# Altium footprint library EF3L90CG400B.PcbLib: 1 footprints
Each footprint in its own frame and in the unit in brackets; x right, y up, seen from the top. Pads: shape width x height; smd on the part's side, far side on the other; paste and mask are expansions set on the pad; w line width, h text height; cw(c..) or ccw(c..) is an arc to the next point about the centre after c.
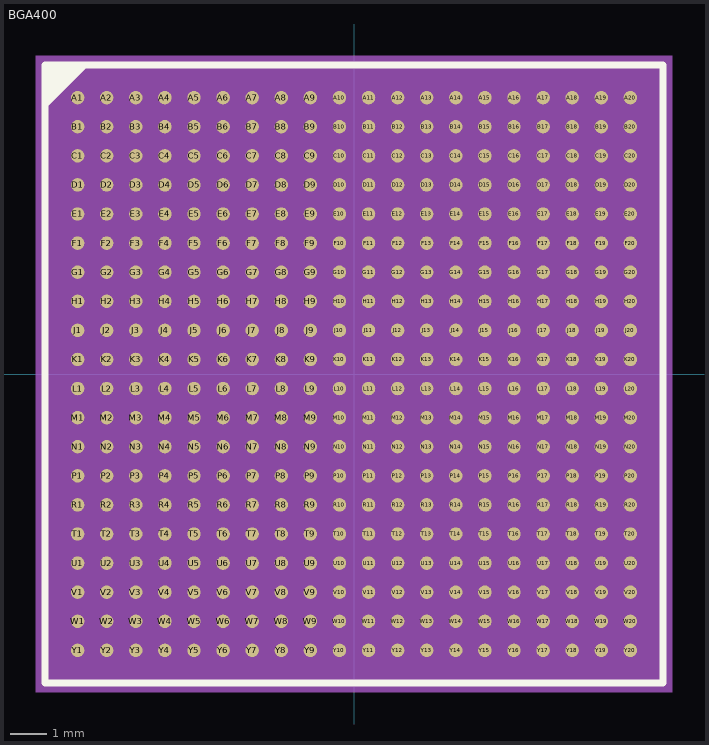
[diagram p0: the footprint, top view; thin cyan lines are the x and y axes]

## BGA400 [mm] "BGA400C80P20X20"
pads (400):
  round 0.37 smd: A1(-7.6,7.6) A2(-6.8,7.6) A3(-6,7.6) A4(-5.2,7.6) A5(-4.4,7.6) A6(-3.6,7.6) A7(-2.8,7.6) A8(-2,7.6) A9(-1.2,7.6) A10(-0.4,7.6) A11(0.4,7.6) A12(1.2,7.6) A13(2,7.6) A14(2.8,7.6) A15(3.6,7.6) A16(4.4,7.6) A17(5.2,7.6) A18(6,7.6) A19(6.8,7.6) A20(7.6,7.6) B1(-7.6,6.8) B2(-6.8,6.8) B3(-6,6.8) B4(-5.2,6.8) B5(-4.4,6.8) B6(-3.6,6.8) B7(-2.8,6.8) B8(-2,6.8) B9(-1.2,6.8) B10(-0.4,6.8) B11(0.4,6.8) B12(1.2,6.8) B13(2,6.8) B14(2.8,6.8) B15(3.6,6.8) B16(4.4,6.8) B17(5.2,6.8) B18(6,6.8) B19(6.8,6.8) B20(7.6,6.8) C1(-7.6,6) C2(-6.8,6) C3(-6,6) C4(-5.2,6) C5(-4.4,6) C6(-3.6,6) C7(-2.8,6) C8(-2,6) C9(-1.2,6) C10(-0.4,6) C11(0.4,6) C12(1.2,6) C13(2,6) C14(2.8,6) C15(3.6,6) C16(4.4,6) C17(5.2,6) C18(6,6) C19(6.8,6) C20(7.6,6) D1(-7.6,5.2) D2(-6.8,5.2) D3(-6,5.2) D4(-5.2,5.2) D5(-4.4,5.2) D6(-3.6,5.2) D7(-2.8,5.2) D8(-2,5.2) D9(-1.2,5.2) D10(-0.4,5.2) D11(0.4,5.2) D12(1.2,5.2) D13(2,5.2) D14(2.8,5.2) D15(3.6,5.2) D16(4.4,5.2) D17(5.2,5.2) D18(6,5.2) D19(6.8,5.2) D20(7.6,5.2) E1(-7.6,4.4) E2(-6.8,4.4) E3(-6,4.4) E4(-5.2,4.4) E5(-4.4,4.4) E6(-3.6,4.4) E7(-2.8,4.4) E8(-2,4.4) E9(-1.2,4.4) E10(-0.4,4.4) E11(0.4,4.4) E12(1.2,4.4) E13(2,4.4) E14(2.8,4.4) E15(3.6,4.4) E16(4.4,4.4) E17(5.2,4.4) E18(6,4.4) E19(6.8,4.4) E20(7.6,4.4) F1(-7.6,3.6) F2(-6.8,3.6) F3(-6,3.6) F4(-5.2,3.6) F5(-4.4,3.6) F6(-3.6,3.6) F7(-2.8,3.6) F8(-2,3.6) F9(-1.2,3.6) F10(-0.4,3.6) F11(0.4,3.6) F12(1.2,3.6) F13(2,3.6) F14(2.8,3.6) F15(3.6,3.6) F16(4.4,3.6) F17(5.2,3.6) F18(6,3.6) F19(6.8,3.6) F20(7.6,3.6) G1(-7.6,2.8) G2(-6.8,2.8) G3(-6,2.8) G4(-5.2,2.8) G5(-4.4,2.8) G6(-3.6,2.8) G7(-2.8,2.8) G8(-2,2.8) G9(-1.2,2.8) G10(-0.4,2.8) G11(0.4,2.8) G12(1.2,2.8) G13(2,2.8) G14(2.8,2.8) G15(3.6,2.8) G16(4.4,2.8) G17(5.2,2.8) G18(6,2.8) G19(6.8,2.8) G20(7.6,2.8) H1(-7.6,2) H2(-6.8,2) H3(-6,2) H4(-5.2,2) H5(-4.4,2) H6(-3.6,2) H7(-2.8,2) H8(-2,2) H9(-1.2,2) H10(-0.4,2) H11(0.4,2) H12(1.2,2) H13(2,2) H14(2.8,2) H15(3.6,2) H16(4.4,2) H17(5.2,2) H18(6,2) H19(6.8,2) H20(7.6,2) J1(-7.6,1.2) J2(-6.8,1.2) J3(-6,1.2) J4(-5.2,1.2) J5(-4.4,1.2) J6(-3.6,1.2) J7(-2.8,1.2) J8(-2,1.2) J9(-1.2,1.2) J10(-0.4,1.2) J11(0.4,1.2) J12(1.2,1.2) J13(2,1.2) J14(2.8,1.2) J15(3.6,1.2) J16(4.4,1.2) J17(5.2,1.2) J18(6,1.2) J19(6.8,1.2) J20(7.6,1.2) K1(-7.6,0.4) K2(-6.8,0.4) K3(-6,0.4) K4(-5.2,0.4) K5(-4.4,0.4) K6(-3.6,0.4) K7(-2.8,0.4) K8(-2,0.4) K9(-1.2,0.4) K10(-0.4,0.4) K11(0.4,0.4) K12(1.2,0.4) K13(2,0.4) K14(2.8,0.4) K15(3.6,0.4) K16(4.4,0.4) K17(5.2,0.4) K18(6,0.4) K19(6.8,0.4) K20(7.6,0.4) L1(-7.6,-0.4) L2(-6.8,-0.4) L3(-6,-0.4) L4(-5.2,-0.4) L5(-4.4,-0.4) L6(-3.6,-0.4) L7(-2.8,-0.4) L8(-2,-0.4) L9(-1.2,-0.4) L10(-0.4,-0.4) L11(0.4,-0.4) L12(1.2,-0.4) L13(2,-0.4) L14(2.8,-0.4) L15(3.6,-0.4) L16(4.4,-0.4) L17(5.2,-0.4) L18(6,-0.4) L19(6.8,-0.4) L20(7.6,-0.4) M1(-7.6,-1.2) M2(-6.8,-1.2) M3(-6,-1.2) M4(-5.2,-1.2) M5(-4.4,-1.2) M6(-3.6,-1.2) M7(-2.8,-1.2) M8(-2,-1.2) M9(-1.2,-1.2) M10(-0.4,-1.2) M11(0.4,-1.2) M12(1.2,-1.2) M13(2,-1.2) M14(2.8,-1.2) M15(3.6,-1.2) M16(4.4,-1.2) M17(5.2,-1.2) M18(6,-1.2) M19(6.8,-1.2) M20(7.6,-1.2) N1(-7.6,-2) N2(-6.8,-2) N3(-6,-2) N4(-5.2,-2) N5(-4.4,-2) N6(-3.6,-2) N7(-2.8,-2) N8(-2,-2) N9(-1.2,-2) N10(-0.4,-2) N11(0.4,-2) N12(1.2,-2) N13(2,-2) N14(2.8,-2) N15(3.6,-2) N16(4.4,-2) N17(5.2,-2) N18(6,-2) N19(6.8,-2) N20(7.6,-2) P1(-7.6,-2.8) P2(-6.8,-2.8) P3(-6,-2.8) P4(-5.2,-2.8) P5(-4.4,-2.8) P6(-3.6,-2.8) P7(-2.8,-2.8) P8(-2,-2.8) P9(-1.2,-2.8) P10(-0.4,-2.8) P11(0.4,-2.8) P12(1.2,-2.8) P13(2,-2.8) P14(2.8,-2.8) P15(3.6,-2.8) P16(4.4,-2.8) P17(5.2,-2.8) P18(6,-2.8) P19(6.8,-2.8) P20(7.6,-2.8) R1(-7.6,-3.6) R2(-6.8,-3.6) R3(-6,-3.6) R4(-5.2,-3.6) R5(-4.4,-3.6) R6(-3.6,-3.6) R7(-2.8,-3.6) R8(-2,-3.6) R9(-1.2,-3.6) R10(-0.4,-3.6) R11(0.4,-3.6) R12(1.2,-3.6) R13(2,-3.6) R14(2.8,-3.6) R15(3.6,-3.6) R16(4.4,-3.6) R17(5.2,-3.6) R18(6,-3.6) R19(6.8,-3.6) R20(7.6,-3.6) T1(-7.6,-4.4) T2(-6.8,-4.4) T3(-6,-4.4) T4(-5.2,-4.4) T5(-4.4,-4.4) T6(-3.6,-4.4) T7(-2.8,-4.4) T8(-2,-4.4) T9(-1.2,-4.4) T10(-0.4,-4.4) T11(0.4,-4.4) T12(1.2,-4.4) T13(2,-4.4) T14(2.8,-4.4) T15(3.6,-4.4) T16(4.4,-4.4) T17(5.2,-4.4) T18(6,-4.4) T19(6.8,-4.4) T20(7.6,-4.4) U1(-7.6,-5.2) U2(-6.8,-5.2) U3(-6,-5.2) U4(-5.2,-5.2) U5(-4.4,-5.2) U6(-3.6,-5.2) U7(-2.8,-5.2) U8(-2,-5.2) U9(-1.2,-5.2) U10(-0.4,-5.2) U11(0.4,-5.2) U12(1.2,-5.2) U13(2,-5.2) U14(2.8,-5.2) U15(3.6,-5.2) U16(4.4,-5.2) U17(5.2,-5.2) U18(6,-5.2) U19(6.8,-5.2) U20(7.6,-5.2) V1(-7.6,-6) V2(-6.8,-6) V3(-6,-6) V4(-5.2,-6) V5(-4.4,-6) V6(-3.6,-6) V7(-2.8,-6) V8(-2,-6) V9(-1.2,-6) V10(-0.4,-6) V11(0.4,-6) V12(1.2,-6) V13(2,-6) V14(2.8,-6) V15(3.6,-6) V16(4.4,-6) V17(5.2,-6) V18(6,-6) V19(6.8,-6) V20(7.6,-6) W1(-7.6,-6.8) W2(-6.8,-6.8) W3(-6,-6.8) W4(-5.2,-6.8) W5(-4.4,-6.8) W6(-3.6,-6.8) W7(-2.8,-6.8) W8(-2,-6.8) W9(-1.2,-6.8) W10(-0.4,-6.8) W11(0.4,-6.8) W12(1.2,-6.8) W13(2,-6.8) W14(2.8,-6.8) W15(3.6,-6.8) W16(4.4,-6.8) W17(5.2,-6.8) W18(6,-6.8) W19(6.8,-6.8) W20(7.6,-6.8) Y1(-7.6,-7.6) Y2(-6.8,-7.6) Y3(-6,-7.6) Y4(-5.2,-7.6) Y5(-4.4,-7.6) Y6(-3.6,-7.6) Y7(-2.8,-7.6) Y8(-2,-7.6) Y9(-1.2,-7.6) Y10(-0.4,-7.6) Y11(0.4,-7.6) Y12(1.2,-7.6) Y13(2,-7.6) Y14(2.8,-7.6) Y15(3.6,-7.6) Y16(4.4,-7.6) Y17(5.2,-7.6) Y18(6,-7.6) Y19(6.8,-7.6) Y20(7.6,-7.6)
Top Overlay:
  dashed: -8.5,8.5 -7.286,8.5 -8.5,7.286
  lines w0.2: -8.5,-8.5 8.5,-8.5 8.5,8.5 -8.5,8.5 -8.5,-8.5
  text ".Designator" at -7.9,10.03 h0.79
Top Courtyard:
  dashed: -8.75,-8.75 -8.75,8.75 8.75,8.75 8.75,-8.75
Mechanical 13:
  text "C20" at 7.6,6.762 h0.64
  text "F19" at 6.8,4.362 h0.64
  text "M8" at -2,-0.692 h0.64
  text "L9" at -1.2,0.108 h0.64
  text "K9" at -1.2,0.908 h0.64
  text "K8" at -2,0.908 h0.64
  text "J8" at -2,1.708 h0.64
  text "J7" at -2.8,1.708 h0.64
  text "H12" at 1.2,2.762 h0.64
  text "H11" at 0.4,2.762 h0.64
  text "J11" at 0.4,1.962 h0.64
  text "H10" at -0.4,2.762 h0.64
  text "J10" at -0.4,1.962 h0.64
  text "H9" at -1.2,2.508 h0.64
  text "J9" at -1.2,1.708 h0.64
  text "H8" at -2,2.508 h0.64
  text "N13" at 2,-1.238 h0.64
  text "M13" at 2,-0.438 h0.64
  text "M12" at 1.2,-0.438 h0.64
  text "L13" at 2,0.362 h0.64
  text "L12" at 1.2,0.362 h0.64
  text "K13" at 2,1.162 h0.64
  text "K12" at 1.2,1.162 h0.64
  text "J13" at 2,1.962 h0.64
  text "J12" at 1.2,1.962 h0.64
  text "H13" at 2,2.762 h0.64
  text "N12" at 1.2,-1.238 h0.64
  text "N11" at 0.4,-1.238 h0.64
  text "N10" at -0.4,-1.238 h0.64
  text "M10" at -0.4,-0.438 h0.64
  text "M9" at -1.2,-0.692 h0.64
  text "N9" at -1.2,-1.492 h0.64
  text "N8" at -2,-1.492 h0.64
  text "F20" at 7.6,4.362 h0.64
  text "M15" at 3.6,-0.438 h0.64
  text "A7" at -2.8,8.108 h0.64
  text "B7" at -2.8,7.308 h0.64
  text "G19" at 6.8,3.562 h0.64
  text "A12" at 1.2,8.362 h0.64
  text "P20" at 7.6,-2.038 h0.64
  text "B12" at 1.2,7.562 h0.64
  text "B13" at 2,7.562 h0.64
  text "G20" at 7.6,3.562 h0.64
  text "A14" at 2.8,8.362 h0.64
  text "B14" at 2.8,7.562 h0.64
  text "A15" at 3.6,8.362 h0.64
  text "P18" at 6,-2.038 h0.64
  text "B15" at 3.6,7.562 h0.64
  text "A16" at 4.4,8.362 h0.64
  text "B16" at 4.4,7.562 h0.64
  text "A20" at 7.6,8.362 h0.64
  text "B4" at -5.2,7.308 h0.64
  text "B19" at 6.8,7.562 h0.64
  text "H19" at 6.8,2.762 h0.64
  text "D10" at -0.4,5.962 h0.64
  text "A4" at -5.2,8.108 h0.64
  text "D11" at 0.4,5.962 h0.64
  text "A13" at 2,8.362 h0.64
  text "C11" at 0.4,6.762 h0.64
  text "A10" at -0.4,8.362 h0.64
  text "D12" at 1.2,5.962 h0.64
  text "P19" at 6.8,-2.038 h0.64
  text "B10" at -0.4,7.562 h0.64
  text "C12" at 1.2,6.762 h0.64
  text "C8" at -2,6.508 h0.64
  text "U1" at -7.6,-4.692 h0.64
  text "D8" at -2,5.708 h0.64
  text "C10" at -0.4,6.762 h0.64
  text "U2" at -6.8,-4.692 h0.64
  text "V1" at -7.6,-5.492 h0.64
  text "H20" at 7.6,2.762 h0.64
  text "V2" at -6.8,-5.492 h0.64
  text "U6" at -3.6,-4.692 h0.64
  text "N15" at 3.6,-1.238 h0.64
  text "V6" at -3.6,-5.492 h0.64
  text "T11" at 0.4,-3.638 h0.64
  text "U12" at 1.2,-4.438 h0.64
  text "N17" at 5.2,-1.238 h0.64
  text "V12" at 1.2,-5.238 h0.64
  text "N14" at 2.8,-1.238 h0.64
  text "T7" at -2.8,-3.892 h0.64
  text "T8" at -2,-3.892 h0.64
  text "Y13" at 2,-6.838 h0.64
  text "W6" at -3.6,-6.292 h0.64
  text "W14" at 2.8,-6.038 h0.64
  text "Y6" at -3.6,-7.092 h0.64
  text "Y14" at 2.8,-6.838 h0.64
  text "N16" at 4.4,-1.238 h0.64
  text "W11" at 0.4,-6.038 h0.64
  text "W15" at 3.6,-6.038 h0.64
  text "Y11" at 0.4,-6.838 h0.64
  text "Y15" at 3.6,-6.838 h0.64
  text "W12" at 1.2,-6.038 h0.64
  text "W16" at 4.4,-6.038 h0.64
  text "Y12" at 1.2,-6.838 h0.64
  text "Y16" at 4.4,-6.838 h0.64
  text "W9" at -1.2,-6.292 h0.64
  text "W17" at 5.2,-6.038 h0.64
  text "Y9" at -1.2,-7.092 h0.64
  text "Y17" at 5.2,-6.838 h0.64
  text "F1" at -7.6,4.108 h0.64
  text "W18" at 6,-6.038 h0.64
  text "F2" at -6.8,4.108 h0.64
  text "Y18" at 6,-6.838 h0.64
  text "M2" at -6.8,-0.692 h0.64
  text "G3" at -6,3.308 h0.64
  text "W19" at 6.8,-6.038 h0.64
  text "N1" at -7.6,-1.492 h0.64
  text "G4" at -5.2,3.308 h0.64
  text "Y19" at 6.8,-6.838 h0.64
  text "N2" at -6.8,-1.492 h0.64
  text "C6" at -3.6,6.508 h0.64
  text "U14" at 2.8,-4.438 h0.64
  text "P2" at -6.8,-2.292 h0.64
  text "D7" at -2.8,5.708 h0.64
  text "Y20" at 7.6,-6.838 h0.64
  text "P1" at -7.6,-2.292 h0.64
  text "V14" at 2.8,-5.238 h0.64
  text "M1" at -7.6,-0.692 h0.64
  text "U15" at 3.6,-4.438 h0.64
  text "K1" at -7.6,0.908 h0.64
  text "V15" at 3.6,-5.238 h0.64
  text "L2" at -6.8,0.108 h0.64
  text "V16" at 4.4,-5.238 h0.64
  text "R19" at 6.8,-2.838 h0.64
  text "J3" at -6,1.708 h0.64
  text "H3" at -6,2.508 h0.64
  text "D13" at 2,5.962 h0.64
  text "E17" at 5.2,5.162 h0.64
  text "D20" at 7.6,5.962 h0.64
  text "E20" at 7.6,5.162 h0.64
  text "E19" at 6.8,5.162 h0.64
  text "G17" at 5.2,3.562 h0.64
  text "J17" at 5.2,1.962 h0.64
  text "J20" at 7.6,1.962 h0.64
  text "J19" at 6.8,1.962 h0.64
  text "K20" at 7.6,1.162 h0.64
  text "A19" at 6.8,8.362 h0.64
  text "K19" at 6.8,1.162 h0.64
  text "C17" at 5.2,6.762 h0.64
  text "C13" at 2,6.762 h0.64
  text "L1" at -7.6,0.108 h0.64
  text "B1" at -7.6,7.308 h0.64
  text "A1" at -7.6,8.108 h0.64
  text "B2" at -6.8,7.308 h0.64
  text "M17" at 5.2,-0.438 h0.64
  text "A2" at -6.8,8.108 h0.64
  text "M20" at 7.6,-0.438 h0.64
  text "A3" at -6,8.108 h0.64
  text "B3" at -6,7.308 h0.64
  text "N20" at 7.6,-1.238 h0.64
  text "C7" at -2.8,6.508 h0.64
  text "D9" at -1.2,5.708 h0.64
  text "E8" at -2,4.908 h0.64
  text "C9" at -1.2,6.508 h0.64
  text "U3" at -6,-4.692 h0.64
  text "N7" at -2.8,-1.492 h0.64
  text "L8" at -2,0.108 h0.64
  text "K3" at -6,0.908 h0.64
  text "H5" at -4.4,2.508 h0.64
  text "D3" at -6,5.708 h0.64
  text "E13" at 2,5.162 h0.64
  text "E12" at 1.2,5.162 h0.64
  text "E11" at 0.4,5.162 h0.64
  text "K10" at -0.4,1.162 h0.64
  text "E10" at -0.4,5.162 h0.64
  text "E9" at -1.2,4.908 h0.64
  text "E5" at -4.4,4.908 h0.64
  text "C5" at -4.4,6.508 h0.64
  text "D4" at -5.2,5.708 h0.64
  text "V18" at 6,-5.238 h0.64
  text "R18" at 6,-2.838 h0.64
  text "L18" at 6,0.362 h0.64
  text "L11" at 0.4,0.362 h0.64
  text "K11" at 0.4,1.162 h0.64
  text "G18" at 6,3.562 h0.64
  text "E16" at 4.4,5.162 h0.64
  text "E18" at 6,5.162 h0.64
  text "U16" at 4.4,-4.438 h0.64
  text "T15" at 3.6,-3.638 h0.64
  text "U13" at 2,-4.438 h0.64
  text "V11" at 0.4,-5.238 h0.64
  text "M11" at 0.4,-0.438 h0.64
  text "L10" at -0.4,0.362 h0.64
  text "U8" at -2,-4.692 h0.64
  text "V7" at -2.8,-5.492 h0.64
  text "U7" at -2.8,-4.692 h0.64
  text "V5" at -4.4,-5.492 h0.64
  text "T3" at -6,-3.892 h0.64
  text "T4" at -5.2,-3.892 h0.64
  text "R3" at -6,-3.092 h0.64
  text "R4" at -5.2,-3.092 h0.64
  text "K18" at 6,1.162 h0.64
  text "K17" at 5.2,1.162 h0.64
  text "L20" at 7.6,0.362 h0.64
  text "L19" at 6.8,0.362 h0.64
  text "B20" at 7.6,7.562 h0.64
  text "E6" at -3.6,4.908 h0.64
  text "B8" at -2,7.308 h0.64
  text "A9" at -1.2,8.108 h0.64
  text "A6" at -3.6,8.108 h0.64
  text "B17" at 5.2,7.562 h0.64
  text "A8" at -2,8.108 h0.64
  text "B11" at 0.4,7.562 h0.64
  text "B9" at -1.2,7.308 h0.64
  text "A17" at 5.2,8.362 h0.64
  text "A11" at 0.4,8.362 h0.64
  text "C15" at 3.6,6.762 h0.64
  text "B6" at -3.6,7.308 h0.64
  text "C16" at 4.4,6.762 h0.64
  text "J1" at -7.6,1.708 h0.64
  text "W20" at 7.6,-6.038 h0.64
  text "L3" at -6,0.108 h0.64
  text "T6" at -3.6,-3.892 h0.64
  text "F16" at 4.4,4.362 h0.64
  text "R6" at -3.6,-3.092 h0.64
  text "M5" at -4.4,-0.692 h0.64
  text "W1" at -7.6,-6.292 h0.64
  text "L7" at -2.8,0.108 h0.64
  text "Y1" at -7.6,-7.092 h0.64
  text "M3" at -6,-0.692 h0.64
  text "M4" at -5.2,-0.692 h0.64
  text "L5" at -4.4,0.108 h0.64
  text "L6" at -3.6,0.108 h0.64
  text "T10" at -0.4,-3.638 h0.64
  text "E1" at -7.6,4.908 h0.64
  text "E3" at -6,4.908 h0.64
  text "D18" at 6,5.962 h0.64
  text "E4" at -5.2,4.908 h0.64
  text "F4" at -5.2,4.108 h0.64
  text "V8" at -2,-5.492 h0.64
  text "D2" at -6.8,5.708 h0.64
  text "D1" at -7.6,5.708 h0.64
  text "W10" at -0.4,-6.038 h0.64
  text "E2" at -6.8,4.908 h0.64
  text "V10" at -0.4,-5.238 h0.64
  text "C1" at -7.6,6.508 h0.64
  text "C2" at -6.8,6.508 h0.64
  text "Y7" at -2.8,-7.092 h0.64
  text "F3" at -6,4.108 h0.64
  text "W7" at -2.8,-6.292 h0.64
  text "U10" at -0.4,-4.438 h0.64
  text "J14" at 2.8,1.962 h0.64
  text "R14" at 2.8,-2.838 h0.64
  text "P14" at 2.8,-2.038 h0.64
  text "J15" at 3.6,1.962 h0.64
  text "M19" at 6.8,-0.438 h0.64
  text "E14" at 2.8,5.162 h0.64
  text "G14" at 2.8,3.562 h0.64
  text "F14" at 2.8,4.362 h0.64
  text "D15" at 3.6,5.962 h0.64
  text "C3" at -6,6.508 h0.64
  text "G13" at 2,3.562 h0.64
  text "C4" at -5.2,6.508 h0.64
  text "C14" at 2.8,6.762 h0.64
  text "F6" at -3.6,4.108 h0.64
  text "G11" at 0.4,3.562 h0.64
  text "F5" at -4.4,4.108 h0.64
  text "D14" at 2.8,5.962 h0.64
  text "G6" at -3.6,3.308 h0.64
  text "F11" at 0.4,4.362 h0.64
  text "G5" at -4.4,3.308 h0.64
  text "F13" at 2,4.362 h0.64
  text "V3" at -6,-5.492 h0.64
  text "G12" at 1.2,3.562 h0.64
  text "P6" at -3.6,-2.292 h0.64
  text "F12" at 1.2,4.362 h0.64
  text "U4" at -5.2,-4.692 h0.64
  text "U5" at -4.4,-4.692 h0.64
  text "G8" at -2,3.308 h0.64
  text "F8" at -2,4.108 h0.64
  text "E7" at -2.8,4.908 h0.64
  text "V4" at -5.2,-5.492 h0.64
  text "P5" at -4.4,-2.292 h0.64
  text "R5" at -4.4,-3.092 h0.64
  text "T5" at -4.4,-3.892 h0.64
  text "R15" at 3.6,-2.838 h0.64
  text "P13" at 2,-2.038 h0.64
  text "T16" at 4.4,-3.638 h0.64
  text "R13" at 2,-2.838 h0.64
  text "T12" at 1.2,-3.638 h0.64
  text "T13" at 2,-3.638 h0.64
  text "P9" at -1.2,-2.292 h0.64
  text "P11" at 0.4,-2.038 h0.64
  text "B18" at 6,7.562 h0.64
  text "P7" at -2.8,-2.292 h0.64
  text "P16" at 4.4,-2.038 h0.64
  text "R8" at -2,-3.092 h0.64
  text "R11" at 0.4,-2.838 h0.64
  text "T19" at 6.8,-3.638 h0.64
  text "R10" at -0.4,-2.838 h0.64
  text "W13" at 2,-6.038 h0.64
  text "P10" at -0.4,-2.038 h0.64
  text "R7" at -2.8,-3.092 h0.64
  text "V20" at 7.6,-5.238 h0.64
  text "R12" at 1.2,-2.838 h0.64
  text "A18" at 6,8.362 h0.64
  text "T20" at 7.6,-3.638 h0.64
  text "V9" at -1.2,-5.492 h0.64
  text "V13" at 2,-5.238 h0.64
  text "T9" at -1.2,-3.892 h0.64
  text "P17" at 5.2,-2.038 h0.64
  text "R9" at -1.2,-3.092 h0.64
  text "P12" at 1.2,-2.038 h0.64
  text "P8" at -2,-2.292 h0.64
  text "L16" at 4.4,0.362 h0.64
  text "G10" at -0.4,3.562 h0.64
  text "K16" at 4.4,1.162 h0.64
  text "J16" at 4.4,1.962 h0.64
  text "U20" at 7.6,-4.438 h0.64
  text "L15" at 3.6,0.362 h0.64
  text "F10" at -0.4,4.362 h0.64
  text "K14" at 2.8,1.162 h0.64
  text "H16" at 4.4,2.762 h0.64
  text "L14" at 2.8,0.362 h0.64
  text "L17" at 5.2,0.362 h0.64
  text "K15" at 3.6,1.162 h0.64
  text "M18" at 6,-0.438 h0.64
  text "N18" at 6,-1.238 h0.64
  text "D16" at 4.4,5.962 h0.64
  text "D17" at 5.2,5.962 h0.64
  text "C19" at 6.8,6.762 h0.64
  text "C18" at 6,6.762 h0.64
  text "E15" at 3.6,5.162 h0.64
  text "V19" at 6.8,-5.238 h0.64
  text "U17" at 5.2,-4.438 h0.64
  text "R16" at 4.4,-2.838 h0.64
  text "P15" at 3.6,-2.038 h0.64
  text "T17" at 5.2,-3.638 h0.64
  text "U18" at 6,-4.438 h0.64
  text "R17" at 5.2,-2.838 h0.64
  text "U19" at 6.8,-4.438 h0.64
  text "V17" at 5.2,-5.238 h0.64
  text "T18" at 6,-3.638 h0.64
  text "H14" at 2.8,2.762 h0.64
  text "G9" at -1.2,3.308 h0.64
  text "M14" at 2.8,-0.438 h0.64
  text "N19" at 6.8,-1.238 h0.64
  text "W5" at -4.4,-6.292 h0.64
  text "M16" at 4.4,-0.438 h0.64
  text "H15" at 3.6,2.762 h0.64
  text "F9" at -1.2,4.108 h0.64
  text "P3" at -6,-2.292 h0.64
  text "Y5" at -4.4,-7.092 h0.64
  text "R1" at -7.6,-3.092 h0.64
  text "N3" at -6,-1.492 h0.64
  text "G2" at -6.8,3.308 h0.64
  text "H7" at -2.8,2.508 h0.64
  text "M6" at -3.6,-0.692 h0.64
  text "J5" at -4.4,1.708 h0.64
  text "T1" at -7.6,-3.892 h0.64
  text "J6" at -3.6,1.708 h0.64
  text "R2" at -6.8,-3.092 h0.64
  text "H6" at -3.6,2.508 h0.64
  text "M7" at -2.8,-0.692 h0.64
  text "G1" at -7.6,3.308 h0.64
  text "G16" at 4.4,3.562 h0.64
  text "P4" at -5.2,-2.292 h0.64
  text "H1" at -7.6,2.508 h0.64
  text "F15" at 3.6,4.362 h0.64
  text "T2" at -6.8,-3.892 h0.64
  text "J4" at -5.2,1.708 h0.64
  text "W4" at -5.2,-6.292 h0.64
  text "N4" at -5.2,-1.492 h0.64
  text "H4" at -5.2,2.508 h0.64
  text "H2" at -6.8,2.508 h0.64
  text "G15" at 3.6,3.562 h0.64
  text "K6" at -3.6,0.908 h0.64
  text "Y4" at -5.2,-7.092 h0.64
  text "K7" at -2.8,0.908 h0.64
  text "K5" at -4.4,0.908 h0.64
  text "T14" at 2.8,-3.638 h0.64
  text "J2" at -6.8,1.708 h0.64
  text "L4" at -5.2,0.108 h0.64
  text "K4" at -5.2,0.908 h0.64
  text "K2" at -6.8,0.908 h0.64
  text "N6" at -3.6,-1.492 h0.64
  text "N5" at -4.4,-1.492 h0.64
  text "R20" at 7.6,-2.838 h0.64
  text "W8" at -2,-6.292 h0.64
  text "B5" at -4.4,7.308 h0.64
  text "F7" at -2.8,4.108 h0.64
  text "G7" at -2.8,3.308 h0.64
  text "D5" at -4.4,5.708 h0.64
  text "D6" at -3.6,5.708 h0.64
  text "H17" at 5.2,2.762 h0.64
  text "J18" at 6,1.962 h0.64
  text "H18" at 6,2.762 h0.64
  text "F18" at 6,4.362 h0.64
  text "F17" at 5.2,4.362 h0.64
  text "Y8" at -2,-7.092 h0.64
  text "U11" at 0.4,-4.438 h0.64
  text "Y2" at -6.8,-7.092 h0.64
  text "W2" at -6.8,-6.292 h0.64
  text "Y3" at -6,-7.092 h0.64
  text "W3" at -6,-6.292 h0.64
  text "U9" at -1.2,-4.692 h0.64
  text "Y10" at -0.4,-6.838 h0.64
  text "A5" at -4.4,8.108 h0.64
  text "D19" at 6.8,5.962 h0.64
Top Assembly:
  dashed: -8.5,8.5 -7.286,8.5 -8.5,7.286
  lines w0.1: -8.5,-8.5 8.5,-8.5 8.5,8.5 -8.5,8.5 -8.5,-8.5
Mechanical 15:
  dashed: -8.75,-8.75 -8.75,8.75 8.75,8.75 8.75,-8.75
3D body: height 3.81, standoff 0, extent -9.5,-9.5 9.5,9.5